# Altium schematic symbol library PE4259_ours.SchLib: 1 symbol
Pins are listed as number, name and electrical type; pins without a type are passive.

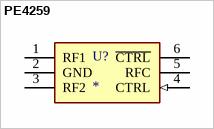
[diagram p0: symbol PE4259]

## PE4259
designator U?
UltraCMOSÂ® Switch, SPDT For Use With PE4259; MF: pSemi; Value: *; Package: SOT-363 Peregrine Semiconductor; MP: PE4259
footprint PCBComponent_1
pins: 1 RF1, 2 GND (power), 3 RF2, 4 CTRL (in), 5 RFC, 6 ~{CTRL} (power)